# Altium integrated library TI Power Management Supervisor and Reset IC.IntLib: 819 symbols (part 20 of 30)
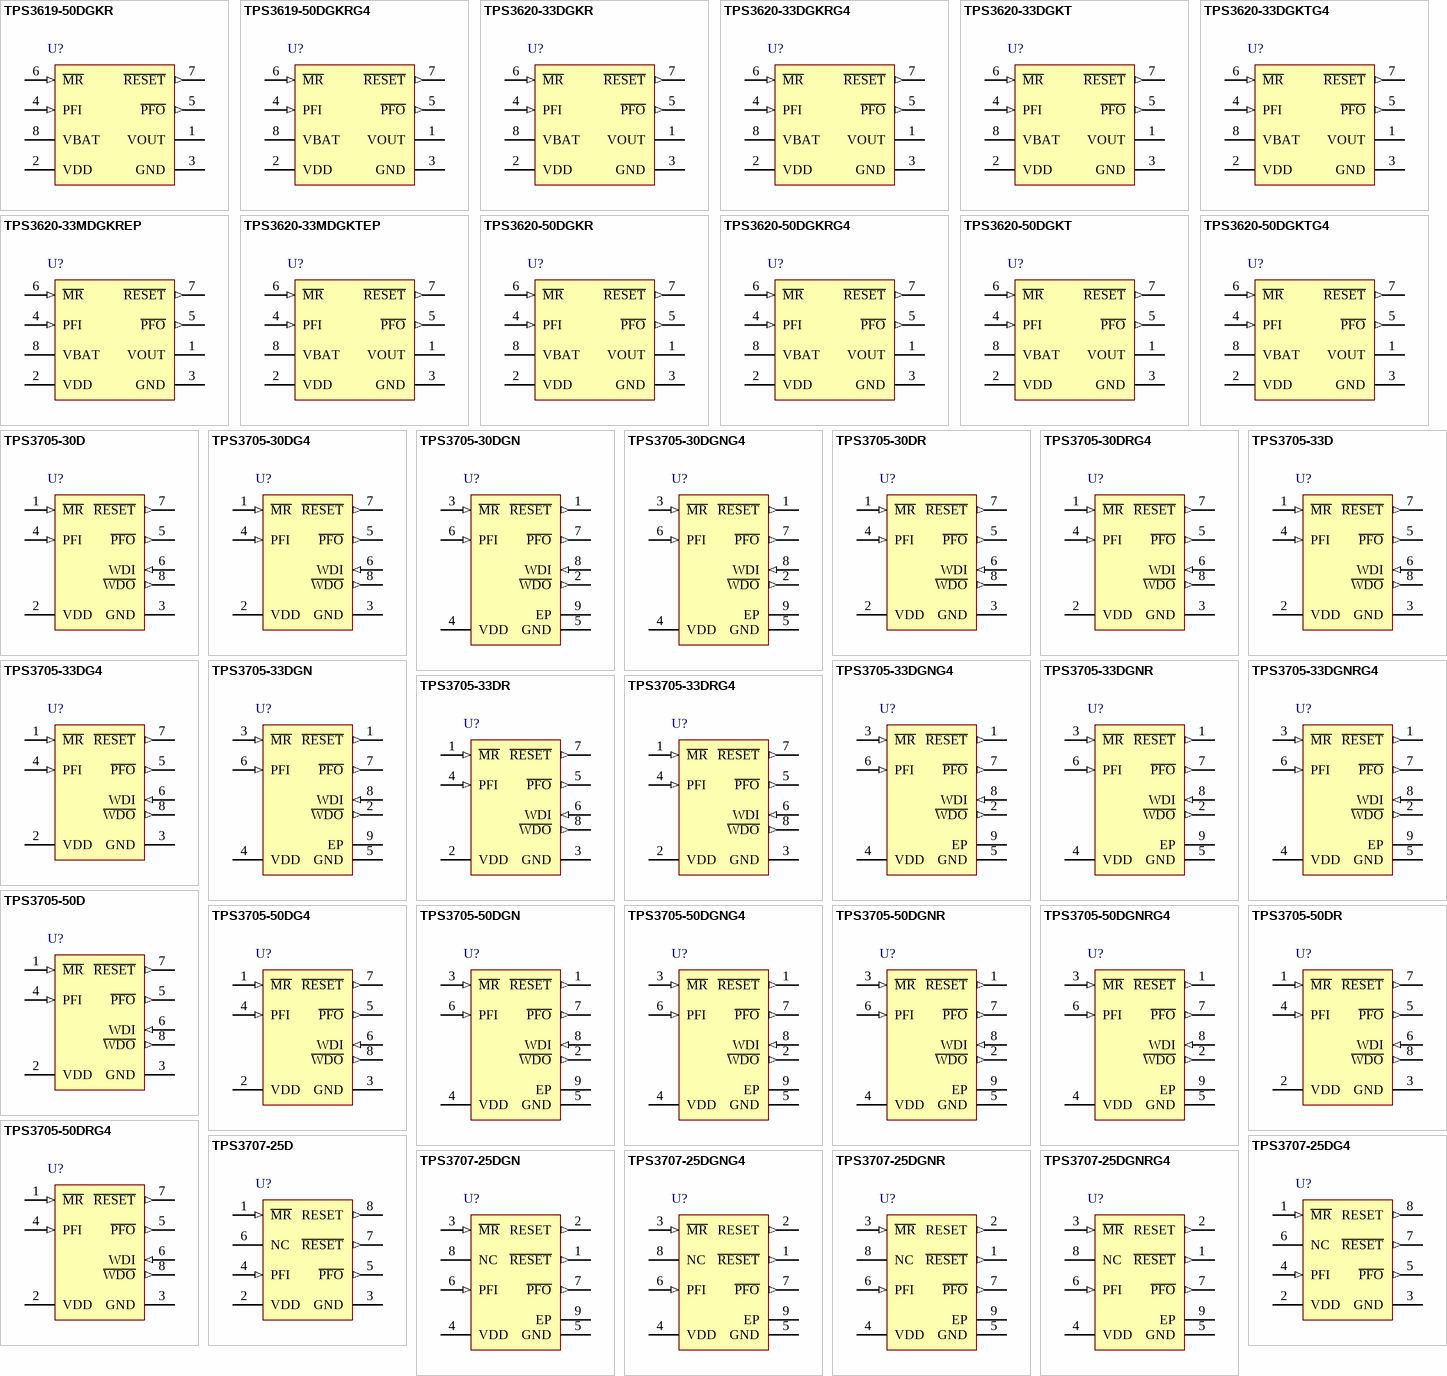
[diagram p40: symbols TPS3619-50DGKR to TPS3707-25DGNRG4]

## TPS3705-50DGNRG4
designator U?
Processor Supervisory Circuit with Power-Fail, 2 Supply Monitored, -40 to 85 degC, 8-pin MSOP-PowerPAD (DGN), Green (RoHS & no Sb/Br); Manufacturer: Texas Instruments; PartNumber: TPS3705-50DGNRG4; # of supplies monitored: 2; Iq(Typ)(uA): 30; Output Driver Type / Reset Output: Active-low, Push-pull; Rating: Catalog; SubFamily: Supervisor and Reset IC; Threshold Voltage 1 (typ)(Typ)(V): 4.55; Threshold Voltage 2 (typ)(Typ)(V): Adjustable; Time Delay(ms): 200; VCC(Max)(V): 5; Watchdog Timer WDI(sec): 1.6; DatasheetVersion: SLVS184C; PackageVersion: revF, May-2011; PackageReference: DGN8-1760X1425TP; PackageDescription: 8-Pin PowerPAD Plastic Small Outline Package 3 x 3 mm Body ,0.65 mm Pitch, Exposed Pad; Supplier 1: Digi-Key; Supplier Part Number 1: TPS3705-50DGNRG4-ND; Supplier 2: Newark; Supplier Part Number 2: 54K1643; Supplier 3: Mouser; Supplier Part Number 3: 595-TPS3705-50DGNRG4; Reset Threshold Accuracy(%): 2; VCC(Min)(V): 2; Mounting Technology: Surface Mount; Code_JEDEC: MO-187-AA-T; ComponentLink1Description: Datasheet; ComponentLink1URL: http://www.ti.com/general/docs/lit/getliterature.tsp?genericPartNumber=TPS3705-50&fileType=pdf
footprint DGN8-1760X1425TP_N (TSOP, 8-Leads, Body 3x3mm, Pitch 0.65mm, Thermal Pad 1.89x1.57mm, IPC Medium Density)
footprint DGN8-1760X1425TP_L (TSOP, 8-Leads, Body 3x3mm, Pitch 0.65mm, Thermal Pad 1.89x1.57mm, IPC High Density)
footprint DGN8-1760X1425TP_M (TSOP, 8-Leads, Body 3x3mm, Pitch 0.65mm, Thermal Pad 1.89x1.57mm, IPC Low Density)
pins: 1 ~{RESET} (out) "Active-low reset output", 2 ~{WDO} (out) "Watchdog timer output", 3 ~{MR} (in) "Manual reset", 4 VDD (power) "Supply voltage", 5 GND (power) "Ground", 6 PFI (in) "Power-fail comparator input", 7 ~{PFO} (out) "Power-fail comparator output", 8 WDI (in) "Watchdog timer input", 9 EP "Thermal Pad"

## TPS3705-50DR
designator U?
Processor Supervisory Circuit with Power-Fail, 2 Supply Monitored, -40 to 85 degC, 8-pin SOIC (D), Green (RoHS & no Sb/Br); Manufacturer: Texas Instruments; PartNumber: TPS3705-50DR; # of supplies monitored: 2; Iq(Typ)(uA): 30; Output Driver Type / Reset Output: Active-low, Push-pull; Rating: Catalog; SubFamily: Supervisor and Reset IC; Threshold Voltage 1 (typ)(Typ)(V): 4.55; Threshold Voltage 2 (typ)(Typ)(V): Adjustable; Time Delay(ms): 200; VCC(Max)(V): 5; Watchdog Timer WDI(sec): 1.6; DatasheetVersion: SLVS184C; PackageVersion: revM, Jun-2011; PackageReference: D8; PackageDescription: 8-Pin Plastic Small Outline Integrated Circuit, 4.9 x 3.9 mm, Pitch 1.27 mm Pitch; Supplier 1: Digi-Key; Supplier Part Number 1: 296-31983-2-ND; Supplier 2: Digi-Key; Supplier Part Number 2: 296-31983-1-ND; Supplier 3: Digi-Key; Supplier Part Number 3: 296-31983-6-ND; Supplier 4: Newark; Supplier Part Number 4: 77C0370; Supplier 5: Mouser; Supplier Part Number 5: 595-TPS3705-50DR; Reset Threshold Accuracy(%): 2; VCC(Min)(V): 2; Mounting Technology: Surface Mount; Code_JEDEC: MS-012AA; ComponentLink1Description: Datasheet; ComponentLink1URL: http://www.ti.com/general/docs/lit/getliterature.tsp?genericPartNumber=TPS3705-50&fileType=pdf
footprint D8_N (SOIC, 8-Leads, Body 4.9x3.9mm, Pitch 1.27mm, IPC Medium Density)
footprint D8_L (SOIC, 8-Leads, Body 4.9x3.9mm, Pitch 1.27mm, IPC High Density)
footprint D8_M (SOIC, 8-Leads, Body 4.9x3.9mm, Pitch 1.27mm, IPC Low Density)
pins: 1 ~{MR} (in) "Manual reset", 2 VDD (power) "Supply voltage", 3 GND (power) "Ground", 4 PFI (in) "Power-fail comparator input", 5 ~{PFO} (out) "Power-fail comparator output", 6 WDI (in) "Watchdog timer input", 7 ~{RESET} (out) "Active-low reset output", 8 ~{WDO} (out) "Watchdog timer output"

## TPS3705-50DRG4
designator U?
Processor Supervisory Circuit with Power-Fail, 2 Supply Monitored, -40 to 85 degC, 8-pin SOIC (D), Green (RoHS & no Sb/Br); Manufacturer: Texas Instruments; PartNumber: TPS3705-50DRG4; # of supplies monitored: 2; Iq(Typ)(uA): 30; Output Driver Type / Reset Output: Active-low, Push-pull; Rating: Catalog; SubFamily: Supervisor and Reset IC; Threshold Voltage 1 (typ)(Typ)(V): 4.55; Threshold Voltage 2 (typ)(Typ)(V): Adjustable; Time Delay(ms): 200; VCC(Max)(V): 5; Watchdog Timer WDI(sec): 1.6; DatasheetVersion: SLVS184C; PackageVersion: revM, Jun-2011; PackageReference: D8; PackageDescription: 8-Pin Plastic Small Outline Integrated Circuit, 4.9 x 3.9 mm, Pitch 1.27 mm Pitch; Supplier 1: Digi-Key; Supplier Part Number 1: TPS3705-50DRG4-ND; Supplier 2: Newark; Supplier Part Number 2: 54K1644; Supplier 3: Mouser; Supplier Part Number 3: 595-TPS3705-50DRG4; Reset Threshold Accuracy(%): 2; VCC(Min)(V): 2; Mounting Technology: Surface Mount; Code_JEDEC: MS-012AA; ComponentLink1Description: Datasheet; ComponentLink1URL: http://www.ti.com/general/docs/lit/getliterature.tsp?genericPartNumber=TPS3705-50&fileType=pdf
footprint D8_N (SOIC, 8-Leads, Body 4.9x3.9mm, Pitch 1.27mm, IPC Medium Density)
footprint D8_L (SOIC, 8-Leads, Body 4.9x3.9mm, Pitch 1.27mm, IPC High Density)
footprint D8_M (SOIC, 8-Leads, Body 4.9x3.9mm, Pitch 1.27mm, IPC Low Density)
pins: 1 ~{MR} (in) "Manual reset", 2 VDD (power) "Supply voltage", 3 GND (power) "Ground", 4 PFI (in) "Power-fail comparator input", 5 ~{PFO} (out) "Power-fail comparator output", 6 WDI (in) "Watchdog timer input", 7 ~{RESET} (out) "Active-low reset output", 8 ~{WDO} (out) "Watchdog timer output"

## TPS3707-25D
designator U?
Processor Supervisory Circuit with Power-Fail, 2 Supply Monitored, -40 to 85 degC, 8-pin SOIC (D), Green (RoHS & no Sb/Br); Manufacturer: Texas Instruments; PartNumber: TPS3707-25D; # of supplies monitored: 2; Iq(Typ)(uA): 20; Output Driver Type / Reset Output: Active-low, Push-pull; Rating: Catalog; Reset Threshold Accuracy(%): 2.2; SubFamily: Supervisor and Reset IC; Threshold Voltage 1 (typ)(Typ)(V): 2.25; Threshold Voltage 2 (typ)(Typ)(V): Adjustable; Time Delay(ms): 200; VCC(Max)(V): 2.5; DatasheetVersion: SLVS184C; PackageVersion: revM, Jun-2011; PackageReference: D8; PackageDescription: 8-Pin Plastic Small Outline Integrated Circuit, 4.9 x 3.9 mm, Pitch 1.27 mm Pitch; Supplier 1: Digi-Key; Supplier Part Number 1: 296-2625-5-ND; Supplier 2: Newark; Supplier Part Number 2: 19C9042; Supplier 3: Mouser; Supplier Part Number 3: 595-TPS3707-25D; VCC(Min)(V): 2; Mounting Technology: Surface Mount; Code_JEDEC: MS-012AA; ComponentLink1Description: Datasheet; ComponentLink1URL: http://www.ti.com/general/docs/lit/getliterature.tsp?genericPartNumber=TPS3707-25&fileType=pdf
footprint D8_N (SOIC, 8-Leads, Body 4.9x3.9mm, Pitch 1.27mm, IPC Medium Density)
footprint D8_L (SOIC, 8-Leads, Body 4.9x3.9mm, Pitch 1.27mm, IPC High Density)
footprint D8_M (SOIC, 8-Leads, Body 4.9x3.9mm, Pitch 1.27mm, IPC Low Density)
pins: 1 ~{MR} (in) "Manual reset", 2 VDD (power) "Supply voltage", 3 GND (power) "Ground", 4 PFI (in) "Power-fail comparator input", 5 ~{PFO} (out) "Power-fail comparator output", 6 NC "No internal connection", 7 ~{RESET} (out) "Active-low reset output", 8 RESET (out) "Active-high reset output"

## TPS3707-25DG4
designator U?
Processor Supervisory Circuit with Power-Fail, 2 Supply Monitored, -40 to 85 degC, 8-pin SOIC (D), Green (RoHS & no Sb/Br); Manufacturer: Texas Instruments; PartNumber: TPS3707-25DG4; # of supplies monitored: 2; Iq(Typ)(uA): 20; Output Driver Type / Reset Output: Active-low, Push-pull; Rating: Catalog; Reset Threshold Accuracy(%): 2.2; SubFamily: Supervisor and Reset IC; Threshold Voltage 1 (typ)(Typ)(V): 2.25; Threshold Voltage 2 (typ)(Typ)(V): Adjustable; Time Delay(ms): 200; VCC(Max)(V): 2.5; DatasheetVersion: SLVS184C; PackageVersion: revM, Jun-2011; PackageReference: D8; PackageDescription: 8-Pin Plastic Small Outline Integrated Circuit, 4.9 x 3.9 mm, Pitch 1.27 mm Pitch; Supplier 1: Digi-Key; Supplier Part Number 1: TPS3707-25DG4-ND; Supplier 2: Newark; Supplier Part Number 2: 41M5865; Supplier 3: Mouser; Supplier Part Number 3: 595-TPS3707-25DG4; VCC(Min)(V): 2; Mounting Technology: Surface Mount; Code_JEDEC: MS-012AA; ComponentLink1Description: Datasheet; ComponentLink1URL: http://www.ti.com/general/docs/lit/getliterature.tsp?genericPartNumber=TPS3707-25&fileType=pdf
footprint D8_N (SOIC, 8-Leads, Body 4.9x3.9mm, Pitch 1.27mm, IPC Medium Density)
footprint D8_L (SOIC, 8-Leads, Body 4.9x3.9mm, Pitch 1.27mm, IPC High Density)
footprint D8_M (SOIC, 8-Leads, Body 4.9x3.9mm, Pitch 1.27mm, IPC Low Density)
pins: 1 ~{MR} (in) "Manual reset", 2 VDD (power) "Supply voltage", 3 GND (power) "Ground", 4 PFI (in) "Power-fail comparator input", 5 ~{PFO} (out) "Power-fail comparator output", 6 NC "No internal connection", 7 ~{RESET} (out) "Active-low reset output", 8 RESET (out) "Active-high reset output"

## TPS3707-25DGN
designator U?
Processor Supervisory Circuit with Power-Fail, 2 Supply Monitored, -40 to 85 degC, 8-pin MSOP-PowerPAD (DGN), Green (RoHS & no Sb/Br); Manufacturer: Texas Instruments; PartNumber: TPS3707-25DGN; # of supplies monitored: 2; Iq(Typ)(uA): 20; Output Driver Type / Reset Output: Active-low, Push-pull; Rating: Catalog; Reset Threshold Accuracy(%): 2.2; SubFamily: Supervisor and Reset IC; Threshold Voltage 1 (typ)(Typ)(V): 2.25; Threshold Voltage 2 (typ)(Typ)(V): Adjustable; Time Delay(ms): 200; VCC(Max)(V): 2.5; DatasheetVersion: SLVS184C; PackageVersion: revF, May-2011; PackageReference: DGN8-1760X1425TP; PackageDescription: 8-Pin PowerPAD Plastic Small Outline Package 3 x 3 mm Body ,0.65 mm Pitch, Exposed Pad; Supplier 1: Digi-Key; Supplier Part Number 1: 296-34605-5-ND; Supplier 2: Newark; Supplier Part Number 2: 77C0371; Supplier 3: Mouser; Supplier Part Number 3: 595-TPS3707-25DGN; VCC(Min)(V): 2; Mounting Technology: Surface Mount; Code_JEDEC: MO-187-AA-T; ComponentLink1Description: Datasheet; ComponentLink1URL: http://www.ti.com/general/docs/lit/getliterature.tsp?genericPartNumber=TPS3707-25&fileType=pdf
footprint DGN8-1760X1425TP_N (TSOP, 8-Leads, Body 3x3mm, Pitch 0.65mm, Thermal Pad 1.89x1.57mm, IPC Medium Density)
footprint DGN8-1760X1425TP_L (TSOP, 8-Leads, Body 3x3mm, Pitch 0.65mm, Thermal Pad 1.89x1.57mm, IPC High Density)
footprint DGN8-1760X1425TP_M (TSOP, 8-Leads, Body 3x3mm, Pitch 0.65mm, Thermal Pad 1.89x1.57mm, IPC Low Density)
pins: 1 ~{RESET} (out) "Active-low reset output", 2 RESET (out) "Active-high reset output", 3 ~{MR} (in) "Manual reset", 4 VDD (power) "Supply voltage", 5 GND (power) "Ground", 6 PFI (in) "Power-fail comparator input", 7 ~{PFO} (out) "Power-fail comparator output", 8 NC "No internal connection", 9 EP "Exposed thermal pad"

## TPS3707-25DGNG4
designator U?
Processor Supervisory Circuit with Power-Fail, 2 Supply Monitored, -40 to 85 degC, 8-pin MSOP-PowerPAD (DGN), Green (RoHS & no Sb/Br); Manufacturer: Texas Instruments; PartNumber: TPS3707-25DGNG4; # of supplies monitored: 2; Iq(Typ)(uA): 20; Output Driver Type / Reset Output: Active-low, Push-pull; Rating: Catalog; Reset Threshold Accuracy(%): 2.2; SubFamily: Supervisor and Reset IC; Threshold Voltage 1 (typ)(Typ)(V): 2.25; Threshold Voltage 2 (typ)(Typ)(V): Adjustable; Time Delay(ms): 200; VCC(Max)(V): 2.5; DatasheetVersion: SLVS184C; PackageVersion: revF, May-2011; PackageReference: DGN8-1760X1425TP; PackageDescription: 8-Pin PowerPAD Plastic Small Outline Package 3 x 3 mm Body ,0.65 mm Pitch, Exposed Pad; Supplier 1: Digi-Key; Supplier Part Number 1: TPS3707-25DGNG4-ND; Supplier 2: Newark; Supplier Part Number 2: 54K1645; Supplier 3: Mouser; Supplier Part Number 3: 595-TPS3707-25DGNG4; VCC(Min)(V): 2; Mounting Technology: Surface Mount; Code_JEDEC: MO-187-AA-T; ComponentLink1Description: Datasheet; ComponentLink1URL: http://www.ti.com/general/docs/lit/getliterature.tsp?genericPartNumber=TPS3707-25&fileType=pdf
footprint DGN8-1760X1425TP_N (TSOP, 8-Leads, Body 3x3mm, Pitch 0.65mm, Thermal Pad 1.89x1.57mm, IPC Medium Density)
footprint DGN8-1760X1425TP_L (TSOP, 8-Leads, Body 3x3mm, Pitch 0.65mm, Thermal Pad 1.89x1.57mm, IPC High Density)
footprint DGN8-1760X1425TP_M (TSOP, 8-Leads, Body 3x3mm, Pitch 0.65mm, Thermal Pad 1.89x1.57mm, IPC Low Density)
pins: 1 ~{RESET} (out) "Active-low reset output", 2 RESET (out) "Active-high reset output", 3 ~{MR} (in) "Manual reset", 4 VDD (power) "Supply voltage", 5 GND (power) "Ground", 6 PFI (in) "Power-fail comparator input", 7 ~{PFO} (out) "Power-fail comparator output", 8 NC "No internal connection", 9 EP "Exposed thermal pad"

## TPS3707-25DGNR
designator U?
Processor Supervisory Circuit with Power-Fail, 2 Supply Monitored, -40 to 85 degC, 8-pin MSOP-PowerPAD (DGN), Green (RoHS & no Sb/Br); Manufacturer: Texas Instruments; PartNumber: TPS3707-25DGNR; # of supplies monitored: 2; Iq(Typ)(uA): 20; Output Driver Type / Reset Output: Active-low, Push-pull; Rating: Catalog; Reset Threshold Accuracy(%): 2.2; SubFamily: Supervisor and Reset IC; Threshold Voltage 1 (typ)(Typ)(V): 2.25; Threshold Voltage 2 (typ)(Typ)(V): Adjustable; Time Delay(ms): 200; VCC(Max)(V): 2.5; DatasheetVersion: SLVS184C; PackageVersion: revF, May-2011; PackageReference: DGN8-1760X1425TP; PackageDescription: 8-Pin PowerPAD Plastic Small Outline Package 3 x 3 mm Body ,0.65 mm Pitch, Exposed Pad; Supplier 1: Digi-Key; Supplier Part Number 1: 296-3321-2-ND; Supplier 2: Digi-Key; Supplier Part Number 2: 296-3321-1-ND; Supplier 3: Digi-Key; Supplier Part Number 3: 296-3321-6-ND; Supplier 4: Newark; Supplier Part Number 4: 77C0372; Supplier 5: Mouser; Supplier Part Number 5: 595-TPS3707-25DGNR; VCC(Min)(V): 2; Mounting Technology: Surface Mount; Code_JEDEC: MO-187-AA-T; ComponentLink1Description: Datasheet; ComponentLink1URL: http://www.ti.com/general/docs/lit/getliterature.tsp?genericPartNumber=TPS3707-25&fileType=pdf
footprint DGN8-1760X1425TP_N (TSOP, 8-Leads, Body 3x3mm, Pitch 0.65mm, Thermal Pad 1.89x1.57mm, IPC Medium Density)
footprint DGN8-1760X1425TP_L (TSOP, 8-Leads, Body 3x3mm, Pitch 0.65mm, Thermal Pad 1.89x1.57mm, IPC High Density)
footprint DGN8-1760X1425TP_M (TSOP, 8-Leads, Body 3x3mm, Pitch 0.65mm, Thermal Pad 1.89x1.57mm, IPC Low Density)
pins: 1 ~{RESET} (out) "Active-low reset output", 2 RESET (out) "Active-high reset output", 3 ~{MR} (in) "Manual reset", 4 VDD (power) "Supply voltage", 5 GND (power) "Ground", 6 PFI (in) "Power-fail comparator input", 7 ~{PFO} (out) "Power-fail comparator output", 8 NC "No internal connection", 9 EP "Exposed thermal pad"

## TPS3707-25DGNRG4
designator U?
Processor Supervisory Circuit with Power-Fail, 2 Supply Monitored, -40 to 85 degC, 8-pin MSOP-PowerPAD (DGN), Green (RoHS & no Sb/Br); Manufacturer: Texas Instruments; PartNumber: TPS3707-25DGNRG4; # of supplies monitored: 2; Iq(Typ)(uA): 20; Output Driver Type / Reset Output: Active-low, Push-pull; Rating: Catalog; Reset Threshold Accuracy(%): 2.2; SubFamily: Supervisor and Reset IC; Threshold Voltage 1 (typ)(Typ)(V): 2.25; Threshold Voltage 2 (typ)(Typ)(V): Adjustable; Time Delay(ms): 200; VCC(Max)(V): 2.5; DatasheetVersion: SLVS184C; PackageVersion: revF, May-2011; PackageReference: DGN8-1760X1425TP; PackageDescription: 8-Pin PowerPAD Plastic Small Outline Package 3 x 3 mm Body ,0.65 mm Pitch, Exposed Pad; Supplier 1: Digi-Key; Supplier Part Number 1: TPS3707-25DGNRG4-ND; Supplier 2: Newark; Supplier Part Number 2: 54K1646; Supplier 3: Mouser; Supplier Part Number 3: 595-TPS3707-25DGNRG4; VCC(Min)(V): 2; Mounting Technology: Surface Mount; Code_JEDEC: MO-187-AA-T; ComponentLink1Description: Datasheet; ComponentLink1URL: http://www.ti.com/general/docs/lit/getliterature.tsp?genericPartNumber=TPS3707-25&fileType=pdf
footprint DGN8-1760X1425TP_N (TSOP, 8-Leads, Body 3x3mm, Pitch 0.65mm, Thermal Pad 1.89x1.57mm, IPC Medium Density)
footprint DGN8-1760X1425TP_L (TSOP, 8-Leads, Body 3x3mm, Pitch 0.65mm, Thermal Pad 1.89x1.57mm, IPC High Density)
footprint DGN8-1760X1425TP_M (TSOP, 8-Leads, Body 3x3mm, Pitch 0.65mm, Thermal Pad 1.89x1.57mm, IPC Low Density)
pins: 1 ~{RESET} (out) "Active-low reset output", 2 RESET (out) "Active-high reset output", 3 ~{MR} (in) "Manual reset", 4 VDD (power) "Supply voltage", 5 GND (power) "Ground", 6 PFI (in) "Power-fail comparator input", 7 ~{PFO} (out) "Power-fail comparator output", 8 NC "No internal connection", 9 EP "Exposed thermal pad"

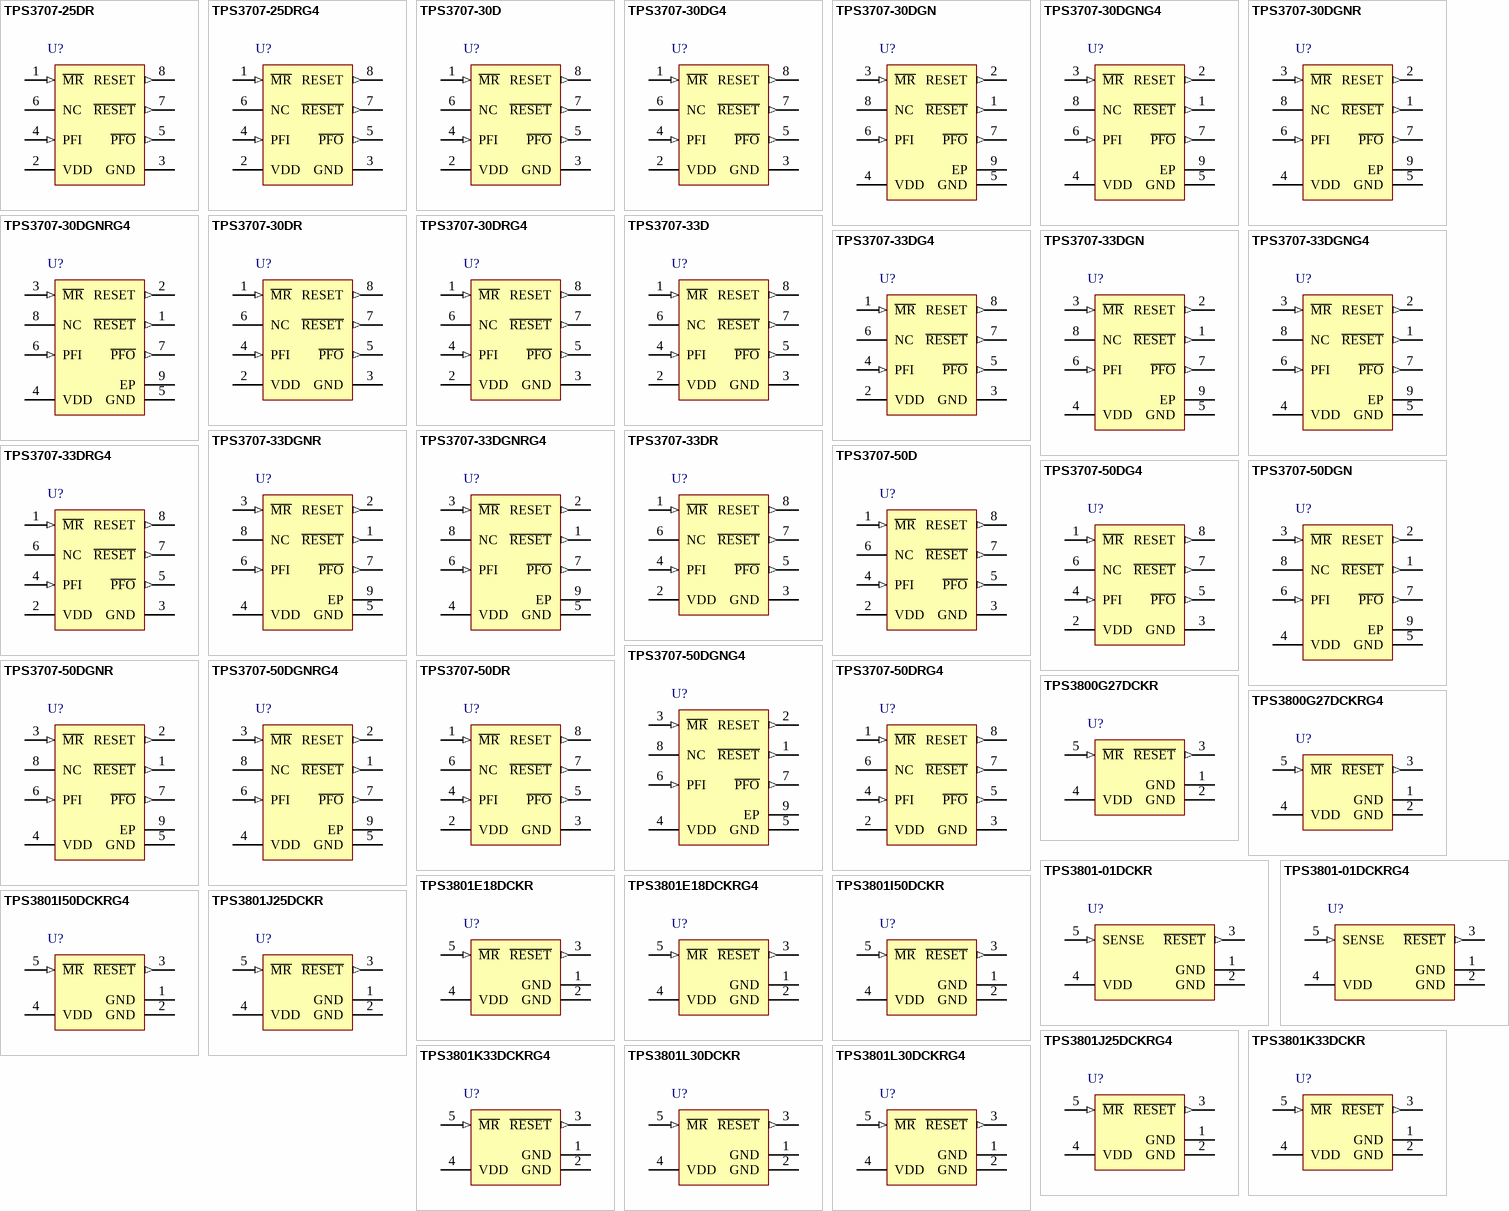
[diagram p15: symbols TPS3707-25DR to TPS3801L30DCKRG4]

## TPS3707-25DR
designator U?
Processor Supervisory Circuit with Power-Fail, 2 Supply Monitored, -40 to 85 degC, 8-pin SOIC (D), Green (RoHS & no Sb/Br); Manufacturer: Texas Instruments; PartNumber: TPS3707-25DR; # of supplies monitored: 2; Iq(Typ)(uA): 20; Output Driver Type / Reset Output: Active-low, Push-pull; Rating: Catalog; Reset Threshold Accuracy(%): 2.2; SubFamily: Supervisor and Reset IC; Threshold Voltage 1 (typ)(Typ)(V): 2.25; Threshold Voltage 2 (typ)(Typ)(V): Adjustable; Time Delay(ms): 200; VCC(Max)(V): 2.5; DatasheetVersion: SLVS184C; PackageVersion: revM, Jun-2011; PackageReference: D8; PackageDescription: 8-Pin Plastic Small Outline Integrated Circuit, 4.9 x 3.9 mm, Pitch 1.27 mm Pitch; Supplier 1: Digi-Key; Supplier Part Number 1: TPS3707-25DR-ND; Supplier 2: Newark; Supplier Part Number 2: 77C0373; Supplier 3: Mouser; Supplier Part Number 3: 595-TPS3707-25DR; VCC(Min)(V): 2; Mounting Technology: Surface Mount; Code_JEDEC: MS-012AA; ComponentLink1Description: Datasheet; ComponentLink1URL: http://www.ti.com/general/docs/lit/getliterature.tsp?genericPartNumber=TPS3707-25&fileType=pdf
footprint D8_N (SOIC, 8-Leads, Body 4.9x3.9mm, Pitch 1.27mm, IPC Medium Density)
footprint D8_L (SOIC, 8-Leads, Body 4.9x3.9mm, Pitch 1.27mm, IPC High Density)
footprint D8_M (SOIC, 8-Leads, Body 4.9x3.9mm, Pitch 1.27mm, IPC Low Density)
pins: 1 ~{MR} (in) "Manual reset", 2 VDD (power) "Supply voltage", 3 GND (power) "Ground", 4 PFI (in) "Power-fail comparator input", 5 ~{PFO} (out) "Power-fail comparator output", 6 NC "No internal connection", 7 ~{RESET} (out) "Active-low reset output", 8 RESET (out) "Active-high reset output"

## TPS3707-25DRG4
designator U?
Processor Supervisory Circuit with Power-Fail, 2 Supply Monitored, -40 to 85 degC, 8-pin SOIC (D), Green (RoHS & no Sb/Br); Manufacturer: Texas Instruments; PartNumber: TPS3707-25DRG4; # of supplies monitored: 2; Iq(Typ)(uA): 20; Output Driver Type / Reset Output: Active-low, Push-pull; Rating: Catalog; Reset Threshold Accuracy(%): 2.2; SubFamily: Supervisor and Reset IC; Threshold Voltage 1 (typ)(Typ)(V): 2.25; Threshold Voltage 2 (typ)(Typ)(V): Adjustable; Time Delay(ms): 200; VCC(Max)(V): 2.5; DatasheetVersion: SLVS184C; PackageVersion: revM, Jun-2011; PackageReference: D8; PackageDescription: 8-Pin Plastic Small Outline Integrated Circuit, 4.9 x 3.9 mm, Pitch 1.27 mm Pitch; Supplier 1: Digi-Key; Supplier Part Number 1: TPS3707-25DRG4-ND; Supplier 2: Newark; Supplier Part Number 2: 33K7605; Supplier 3: Mouser; Supplier Part Number 3: 595-TPS3707-25DRG4; VCC(Min)(V): 2; Mounting Technology: Surface Mount; Code_JEDEC: MS-012AA; ComponentLink1Description: Datasheet; ComponentLink1URL: http://www.ti.com/general/docs/lit/getliterature.tsp?genericPartNumber=TPS3707-25&fileType=pdf
footprint D8_N (SOIC, 8-Leads, Body 4.9x3.9mm, Pitch 1.27mm, IPC Medium Density)
footprint D8_L (SOIC, 8-Leads, Body 4.9x3.9mm, Pitch 1.27mm, IPC High Density)
footprint D8_M (SOIC, 8-Leads, Body 4.9x3.9mm, Pitch 1.27mm, IPC Low Density)
pins: 1 ~{MR} (in) "Manual reset", 2 VDD (power) "Supply voltage", 3 GND (power) "Ground", 4 PFI (in) "Power-fail comparator input", 5 ~{PFO} (out) "Power-fail comparator output", 6 NC "No internal connection", 7 ~{RESET} (out) "Active-low reset output", 8 RESET (out) "Active-high reset output"

## TPS3707-30D
designator U?
Processor Supervisory Circuit with Power-Fail, 2 Supply Monitored, -40 to 85 degC, 8-pin SOIC (D), Green (RoHS & no Sb/Br); Manufacturer: Texas Instruments; PartNumber: TPS3707-30D; # of supplies monitored: 2; Iq(Typ)(uA): 20; Output Driver Type / Reset Output: Active-low, Push-pull; Rating: Catalog; Reset Threshold Accuracy(%): 2.1; SubFamily: Supervisor and Reset IC; Threshold Voltage 1 (typ)(Typ)(V): 2.63; Threshold Voltage 2 (typ)(Typ)(V): Adjustable; Time Delay(ms): 200; VCC(Max)(V): 3; DatasheetVersion: SLVS184C; PackageVersion: revM, Jun-2011; PackageReference: D8; PackageDescription: 8-Pin Plastic Small Outline Integrated Circuit, 4.9 x 3.9 mm, Pitch 1.27 mm Pitch; Supplier 1: Digi-Key; Supplier Part Number 1: 296-2626-5-ND; Supplier 2: Newark; Supplier Part Number 2: 35K1320; Supplier 3: Mouser; Supplier Part Number 3: 595-TPS3707-30D; VCC(Min)(V): 2; Mounting Technology: Surface Mount; Code_JEDEC: MS-012AA; ComponentLink1Description: Datasheet; ComponentLink1URL: http://www.ti.com/general/docs/lit/getliterature.tsp?genericPartNumber=TPS3707-30&fileType=pdf
footprint D8_N (SOIC, 8-Leads, Body 4.9x3.9mm, Pitch 1.27mm, IPC Medium Density)
footprint D8_L (SOIC, 8-Leads, Body 4.9x3.9mm, Pitch 1.27mm, IPC High Density)
footprint D8_M (SOIC, 8-Leads, Body 4.9x3.9mm, Pitch 1.27mm, IPC Low Density)
pins: 1 ~{MR} (in) "Manual reset", 2 VDD (power) "Supply voltage", 3 GND (power) "Ground", 4 PFI (in) "Power-fail comparator input", 5 ~{PFO} (out) "Power-fail comparator output", 6 NC "No internal connection", 7 ~{RESET} (out) "Active-low reset output", 8 RESET (out) "Active-high reset output"

## TPS3707-30DG4
designator U?
Processor Supervisory Circuit with Power-Fail, 2 Supply Monitored, -40 to 85 degC, 8-pin SOIC (D), Green (RoHS & no Sb/Br); Manufacturer: Texas Instruments; PartNumber: TPS3707-30DG4; # of supplies monitored: 2; Iq(Typ)(uA): 20; Output Driver Type / Reset Output: Active-low, Push-pull; Rating: Catalog; Reset Threshold Accuracy(%): 2.1; SubFamily: Supervisor and Reset IC; Threshold Voltage 1 (typ)(Typ)(V): 2.63; Threshold Voltage 2 (typ)(Typ)(V): Adjustable; Time Delay(ms): 200; VCC(Max)(V): 3; DatasheetVersion: SLVS184C; PackageVersion: revM, Jun-2011; PackageReference: D8; PackageDescription: 8-Pin Plastic Small Outline Integrated Circuit, 4.9 x 3.9 mm, Pitch 1.27 mm Pitch; Supplier 1: Digi-Key; Supplier Part Number 1: TPS3707-30DG4-ND; Supplier 2: Newark; Supplier Part Number 2: 18M3218; Supplier 3: Mouser; Supplier Part Number 3: 595-TPS3707-30DG4; VCC(Min)(V): 2; Mounting Technology: Surface Mount; Code_JEDEC: MS-012AA; ComponentLink1Description: Datasheet; ComponentLink1URL: http://www.ti.com/general/docs/lit/getliterature.tsp?genericPartNumber=TPS3707-30&fileType=pdf
footprint D8_N (SOIC, 8-Leads, Body 4.9x3.9mm, Pitch 1.27mm, IPC Medium Density)
footprint D8_L (SOIC, 8-Leads, Body 4.9x3.9mm, Pitch 1.27mm, IPC High Density)
footprint D8_M (SOIC, 8-Leads, Body 4.9x3.9mm, Pitch 1.27mm, IPC Low Density)
pins: 1 ~{MR} (in) "Manual reset", 2 VDD (power) "Supply voltage", 3 GND (power) "Ground", 4 PFI (in) "Power-fail comparator input", 5 ~{PFO} (out) "Power-fail comparator output", 6 NC "No internal connection", 7 ~{RESET} (out) "Active-low reset output", 8 RESET (out) "Active-high reset output"

## TPS3707-30DGN
designator U?
Processor Supervisory Circuit with Power-Fail, 2 Supply Monitored, -40 to 85 degC, 8-pin MSOP-PowerPAD (DGN), Green (RoHS & no Sb/Br); Manufacturer: Texas Instruments; PartNumber: TPS3707-30DGN; # of supplies monitored: 2; Iq(Typ)(uA): 20; Output Driver Type / Reset Output: Active-low, Push-pull; Rating: Catalog; Reset Threshold Accuracy(%): 2.1; SubFamily: Supervisor and Reset IC; Threshold Voltage 1 (typ)(Typ)(V): 2.63; Threshold Voltage 2 (typ)(Typ)(V): Adjustable; Time Delay(ms): 200; VCC(Max)(V): 3; DatasheetVersion: SLVS184C; PackageVersion: revF, May-2011; PackageReference: DGN8-1760X1425TP; PackageDescription: 8-Pin PowerPAD Plastic Small Outline Package 3 x 3 mm Body ,0.65 mm Pitch, Exposed Pad; Supplier 1: Digi-Key; Supplier Part Number 1: 296-3322-5-ND; Supplier 2: Newark; Supplier Part Number 2: 77C0374; Supplier 3: Mouser; Supplier Part Number 3: 595-TPS3707-30DGN; VCC(Min)(V): 2; Mounting Technology: Surface Mount; Code_JEDEC: MO-187-AA-T; ComponentLink1Description: Datasheet; ComponentLink1URL: http://www.ti.com/general/docs/lit/getliterature.tsp?genericPartNumber=TPS3707-30&fileType=pdf
footprint DGN8-1760X1425TP_N (TSOP, 8-Leads, Body 3x3mm, Pitch 0.65mm, Thermal Pad 1.89x1.57mm, IPC Medium Density)
footprint DGN8-1760X1425TP_L (TSOP, 8-Leads, Body 3x3mm, Pitch 0.65mm, Thermal Pad 1.89x1.57mm, IPC High Density)
footprint DGN8-1760X1425TP_M (TSOP, 8-Leads, Body 3x3mm, Pitch 0.65mm, Thermal Pad 1.89x1.57mm, IPC Low Density)
pins: 1 ~{RESET} (out) "Active-low reset output", 2 RESET (out) "Active-high reset output", 3 ~{MR} (in) "Manual reset", 4 VDD (power) "Supply voltage", 5 GND (power) "Ground", 6 PFI (in) "Power-fail comparator input", 7 ~{PFO} (out) "Power-fail comparator output", 8 NC "No internal connection", 9 EP "Exposed thermal pad"

## TPS3707-30DGNG4
designator U?
Processor Supervisory Circuit with Power-Fail, 2 Supply Monitored, -40 to 85 degC, 8-pin MSOP-PowerPAD (DGN), Green (RoHS & no Sb/Br); Manufacturer: Texas Instruments; PartNumber: TPS3707-30DGNG4; # of supplies monitored: 2; Iq(Typ)(uA): 20; Output Driver Type / Reset Output: Active-low, Push-pull; Rating: Catalog; Reset Threshold Accuracy(%): 2.1; SubFamily: Supervisor and Reset IC; Threshold Voltage 1 (typ)(Typ)(V): 2.63; Threshold Voltage 2 (typ)(Typ)(V): Adjustable; Time Delay(ms): 200; VCC(Max)(V): 3; DatasheetVersion: SLVS184C; PackageVersion: revF, May-2011; PackageReference: DGN8-1760X1425TP; PackageDescription: 8-Pin PowerPAD Plastic Small Outline Package 3 x 3 mm Body ,0.65 mm Pitch, Exposed Pad; Supplier 1: Digi-Key; Supplier Part Number 1: TPS3707-30DGNG4-ND; Supplier 2: Newark; Supplier Part Number 2: 54K1647; Supplier 3: Mouser; Supplier Part Number 3: 595-TPS3707-30DGNG4; VCC(Min)(V): 2; Mounting Technology: Surface Mount; Code_JEDEC: MO-187-AA-T; ComponentLink1Description: Datasheet; ComponentLink1URL: http://www.ti.com/general/docs/lit/getliterature.tsp?genericPartNumber=TPS3707-30&fileType=pdf
footprint DGN8-1760X1425TP_N (TSOP, 8-Leads, Body 3x3mm, Pitch 0.65mm, Thermal Pad 1.89x1.57mm, IPC Medium Density)
footprint DGN8-1760X1425TP_L (TSOP, 8-Leads, Body 3x3mm, Pitch 0.65mm, Thermal Pad 1.89x1.57mm, IPC High Density)
footprint DGN8-1760X1425TP_M (TSOP, 8-Leads, Body 3x3mm, Pitch 0.65mm, Thermal Pad 1.89x1.57mm, IPC Low Density)
pins: 1 ~{RESET} (out) "Active-low reset output", 2 RESET (out) "Active-high reset output", 3 ~{MR} (in) "Manual reset", 4 VDD (power) "Supply voltage", 5 GND (power) "Ground", 6 PFI (in) "Power-fail comparator input", 7 ~{PFO} (out) "Power-fail comparator output", 8 NC "No internal connection", 9 EP "Exposed thermal pad"

## TPS3707-30DGNR
designator U?
Processor Supervisory Circuit with Power-Fail, 2 Supply Monitored, -40 to 85 degC, 8-pin MSOP-PowerPAD (DGN), Green (RoHS & no Sb/Br); Manufacturer: Texas Instruments; PartNumber: TPS3707-30DGNR; # of supplies monitored: 2; Iq(Typ)(uA): 20; Output Driver Type / Reset Output: Active-low, Push-pull; Rating: Catalog; Reset Threshold Accuracy(%): 2.1; SubFamily: Supervisor and Reset IC; Threshold Voltage 1 (typ)(Typ)(V): 2.63; Threshold Voltage 2 (typ)(Typ)(V): Adjustable; Time Delay(ms): 200; VCC(Max)(V): 3; DatasheetVersion: SLVS184C; PackageVersion: revF, May-2011; PackageReference: DGN8-1760X1425TP; PackageDescription: 8-Pin PowerPAD Plastic Small Outline Package 3 x 3 mm Body ,0.65 mm Pitch, Exposed Pad; Supplier 1: Digi-Key; Supplier Part Number 1: TPS3707-30DGNR-ND; Supplier 2: Newark; Supplier Part Number 2: 65J6892; Supplier 3: Mouser; Supplier Part Number 3: 595-TPS3707-30DGNR; VCC(Min)(V): 2; Mounting Technology: Surface Mount; Code_JEDEC: MO-187-AA-T; ComponentLink1Description: Datasheet; ComponentLink1URL: http://www.ti.com/general/docs/lit/getliterature.tsp?genericPartNumber=TPS3707-30&fileType=pdf
footprint DGN8-1760X1425TP_N (TSOP, 8-Leads, Body 3x3mm, Pitch 0.65mm, Thermal Pad 1.89x1.57mm, IPC Medium Density)
footprint DGN8-1760X1425TP_L (TSOP, 8-Leads, Body 3x3mm, Pitch 0.65mm, Thermal Pad 1.89x1.57mm, IPC High Density)
footprint DGN8-1760X1425TP_M (TSOP, 8-Leads, Body 3x3mm, Pitch 0.65mm, Thermal Pad 1.89x1.57mm, IPC Low Density)
pins: 1 ~{RESET} (out) "Active-low reset output", 2 RESET (out) "Active-high reset output", 3 ~{MR} (in) "Manual reset", 4 VDD (power) "Supply voltage", 5 GND (power) "Ground", 6 PFI (in) "Power-fail comparator input", 7 ~{PFO} (out) "Power-fail comparator output", 8 NC "No internal connection", 9 EP "Exposed thermal pad"

## TPS3707-30DGNRG4
designator U?
Processor Supervisory Circuit with Power-Fail, 2 Supply Monitored, -40 to 85 degC, 8-pin MSOP-PowerPAD (DGN), Green (RoHS & no Sb/Br); Manufacturer: Texas Instruments; PartNumber: TPS3707-30DGNRG4; # of supplies monitored: 2; Iq(Typ)(uA): 20; Output Driver Type / Reset Output: Active-low, Push-pull; Rating: Catalog; Reset Threshold Accuracy(%): 2.1; SubFamily: Supervisor and Reset IC; Threshold Voltage 1 (typ)(Typ)(V): 2.63; Threshold Voltage 2 (typ)(Typ)(V): Adjustable; Time Delay(ms): 200; VCC(Max)(V): 3; DatasheetVersion: SLVS184C; PackageVersion: revF, May-2011; PackageReference: DGN8-1760X1425TP; PackageDescription: 8-Pin PowerPAD Plastic Small Outline Package 3 x 3 mm Body ,0.65 mm Pitch, Exposed Pad; Supplier 1: Digi-Key; Supplier Part Number 1: TPS3707-30DGNRG4-ND; Supplier 2: Newark; Supplier Part Number 2: 58K6926; Supplier 3: Mouser; Supplier Part Number 3: 595-TPS3707-30DGNRG4; VCC(Min)(V): 2; Mounting Technology: Surface Mount; Code_JEDEC: MO-187-AA-T; ComponentLink1Description: Datasheet; ComponentLink1URL: http://www.ti.com/general/docs/lit/getliterature.tsp?genericPartNumber=TPS3707-30&fileType=pdf
footprint DGN8-1760X1425TP_N (TSOP, 8-Leads, Body 3x3mm, Pitch 0.65mm, Thermal Pad 1.89x1.57mm, IPC Medium Density)
footprint DGN8-1760X1425TP_L (TSOP, 8-Leads, Body 3x3mm, Pitch 0.65mm, Thermal Pad 1.89x1.57mm, IPC High Density)
footprint DGN8-1760X1425TP_M (TSOP, 8-Leads, Body 3x3mm, Pitch 0.65mm, Thermal Pad 1.89x1.57mm, IPC Low Density)
pins: 1 ~{RESET} (out) "Active-low reset output", 2 RESET (out) "Active-high reset output", 3 ~{MR} (in) "Manual reset", 4 VDD (power) "Supply voltage", 5 GND (power) "Ground", 6 PFI (in) "Power-fail comparator input", 7 ~{PFO} (out) "Power-fail comparator output", 8 NC "No internal connection", 9 EP "Exposed thermal pad"

## TPS3707-30DR
designator U?
Processor Supervisory Circuit with Power-Fail, 2 Supply Monitored, -40 to 85 degC, 8-pin SOIC (D), Green (RoHS & no Sb/Br); Manufacturer: Texas Instruments; PartNumber: TPS3707-30DR; # of supplies monitored: 2; Iq(Typ)(uA): 20; Output Driver Type / Reset Output: Active-low, Push-pull; Rating: Catalog; Reset Threshold Accuracy(%): 2.1; SubFamily: Supervisor and Reset IC; Threshold Voltage 1 (typ)(Typ)(V): 2.63; Threshold Voltage 2 (typ)(Typ)(V): Adjustable; Time Delay(ms): 200; VCC(Max)(V): 3; DatasheetVersion: SLVS184C; PackageVersion: revM, Jun-2011; PackageReference: D8; PackageDescription: 8-Pin Plastic Small Outline Integrated Circuit, 4.9 x 3.9 mm, Pitch 1.27 mm Pitch; Supplier 1: Digi-Key; Supplier Part Number 1: TPS3707-30DR-ND; Supplier 2: Newark; Supplier Part Number 2: 77C0375; Supplier 3: Mouser; Supplier Part Number 3: 595-TPS3707-30DR; VCC(Min)(V): 2; Mounting Technology: Surface Mount; Code_JEDEC: MS-012AA; ComponentLink1Description: Datasheet; ComponentLink1URL: http://www.ti.com/general/docs/lit/getliterature.tsp?genericPartNumber=TPS3707-30&fileType=pdf
footprint D8_N (SOIC, 8-Leads, Body 4.9x3.9mm, Pitch 1.27mm, IPC Medium Density)
footprint D8_L (SOIC, 8-Leads, Body 4.9x3.9mm, Pitch 1.27mm, IPC High Density)
footprint D8_M (SOIC, 8-Leads, Body 4.9x3.9mm, Pitch 1.27mm, IPC Low Density)
pins: 1 ~{MR} (in) "Manual reset", 2 VDD (power) "Supply voltage", 3 GND (power) "Ground", 4 PFI (in) "Power-fail comparator input", 5 ~{PFO} (out) "Power-fail comparator output", 6 NC "No internal connection", 7 ~{RESET} (out) "Active-low reset output", 8 RESET (out) "Active-high reset output"

## TPS3707-30DRG4
designator U?
Processor Supervisory Circuit with Power-Fail, 2 Supply Monitored, -40 to 85 degC, 8-pin SOIC (D), Green (RoHS & no Sb/Br); Manufacturer: Texas Instruments; PartNumber: TPS3707-30DRG4; # of supplies monitored: 2; Iq(Typ)(uA): 20; Output Driver Type / Reset Output: Active-low, Push-pull; Rating: Catalog; Reset Threshold Accuracy(%): 2.1; SubFamily: Supervisor and Reset IC; Threshold Voltage 1 (typ)(Typ)(V): 2.63; Threshold Voltage 2 (typ)(Typ)(V): Adjustable; Time Delay(ms): 200; VCC(Max)(V): 3; DatasheetVersion: SLVS184C; PackageVersion: revM, Jun-2011; PackageReference: D8; PackageDescription: 8-Pin Plastic Small Outline Integrated Circuit, 4.9 x 3.9 mm, Pitch 1.27 mm Pitch; Supplier 1: Digi-Key; Supplier Part Number 1: TPS3707-30DRG4-ND; Supplier 2: Newark; Supplier Part Number 2: 33K7606; Supplier 3: Mouser; Supplier Part Number 3: 595-TPS3707-30DRG4; VCC(Min)(V): 2; Mounting Technology: Surface Mount; Code_JEDEC: MS-012AA; ComponentLink1Description: Datasheet; ComponentLink1URL: http://www.ti.com/general/docs/lit/getliterature.tsp?genericPartNumber=TPS3707-30&fileType=pdf
footprint D8_N (SOIC, 8-Leads, Body 4.9x3.9mm, Pitch 1.27mm, IPC Medium Density)
footprint D8_L (SOIC, 8-Leads, Body 4.9x3.9mm, Pitch 1.27mm, IPC High Density)
footprint D8_M (SOIC, 8-Leads, Body 4.9x3.9mm, Pitch 1.27mm, IPC Low Density)
pins: 1 ~{MR} (in) "Manual reset", 2 VDD (power) "Supply voltage", 3 GND (power) "Ground", 4 PFI (in) "Power-fail comparator input", 5 ~{PFO} (out) "Power-fail comparator output", 6 NC "No internal connection", 7 ~{RESET} (out) "Active-low reset output", 8 RESET (out) "Active-high reset output"

## TPS3707-33D
designator U?
Processor Supervisory Circuit with Power-Fail, 2 Supply Monitored, -40 to 85 degC, 8-pin SOIC (D), Green (RoHS & no Sb/Br); Manufacturer: Texas Instruments; PartNumber: TPS3707-33D; # of supplies monitored: 2; Iq(Typ)(uA): 20; Output Driver Type / Reset Output: Active-low, Push-pull; Rating: Catalog; Reset Threshold Accuracy(%): 1.9; SubFamily: Supervisor and Reset IC; Threshold Voltage 1 (typ)(Typ)(V): 2.93; Threshold Voltage 2 (typ)(Typ)(V): Adjustable; Time Delay(ms): 200; VCC(Max)(V): 3.3; DatasheetVersion: SLVS184C; PackageVersion: revM, Jun-2011; PackageReference: D8; PackageDescription: 8-Pin Plastic Small Outline Integrated Circuit, 4.9 x 3.9 mm, Pitch 1.27 mm Pitch; Supplier 1: Digi-Key; Supplier Part Number 1: 296-2627-5-ND; Supplier 2: Farnell; Supplier Part Number 2: 8457140; Supplier 3: Newark; Supplier Part Number 3: 38K8669; Supplier 4: Newark; Supplier Part Number 4: 19C9044; Supplier 5: Mouser; Supplier Part Number 5: 595-TPS3707-33D; VCC(Min)(V): 2; Mounting Technology: Surface Mount; Code_JEDEC: MS-012AA; ComponentLink1Description: Datasheet; ComponentLink1URL: http://www.ti.com/general/docs/lit/getliterature.tsp?genericPartNumber=TPS3707-33&fileType=pdf
footprint D8_N (SOIC, 8-Leads, Body 4.9x3.9mm, Pitch 1.27mm, IPC Medium Density)
footprint D8_L (SOIC, 8-Leads, Body 4.9x3.9mm, Pitch 1.27mm, IPC High Density)
footprint D8_M (SOIC, 8-Leads, Body 4.9x3.9mm, Pitch 1.27mm, IPC Low Density)
pins: 1 ~{MR} (in) "Manual reset", 2 VDD (power) "Supply voltage", 3 GND (power) "Ground", 4 PFI (in) "Power-fail comparator input", 5 ~{PFO} (out) "Power-fail comparator output", 6 NC "No internal connection", 7 ~{RESET} (out) "Active-low reset output", 8 RESET (out) "Active-high reset output"

## TPS3707-33DG4
designator U?
Processor Supervisory Circuit with Power-Fail, 2 Supply Monitored, -40 to 85 degC, 8-pin SOIC (D), Green (RoHS & no Sb/Br); Manufacturer: Texas Instruments; PartNumber: TPS3707-33DG4; # of supplies monitored: 2; Iq(Typ)(uA): 20; Output Driver Type / Reset Output: Active-low, Push-pull; Rating: Catalog; Reset Threshold Accuracy(%): 1.9; SubFamily: Supervisor and Reset IC; Threshold Voltage 1 (typ)(Typ)(V): 2.93; Threshold Voltage 2 (typ)(Typ)(V): Adjustable; Time Delay(ms): 200; VCC(Max)(V): 3.3; DatasheetVersion: SLVS184C; PackageVersion: revM, Jun-2011; PackageReference: D8; PackageDescription: 8-Pin Plastic Small Outline Integrated Circuit, 4.9 x 3.9 mm, Pitch 1.27 mm Pitch; Supplier 1: Digi-Key; Supplier Part Number 1: TPS3707-33DG4-ND; Supplier 2: Newark; Supplier Part Number 2: 54K1650; Supplier 3: Mouser; Supplier Part Number 3: 595-TPS3707-33DG4; VCC(Min)(V): 2; Mounting Technology: Surface Mount; Code_JEDEC: MS-012AA; ComponentLink1Description: Datasheet; ComponentLink1URL: http://www.ti.com/general/docs/lit/getliterature.tsp?genericPartNumber=TPS3707-33&fileType=pdf
footprint D8_N (SOIC, 8-Leads, Body 4.9x3.9mm, Pitch 1.27mm, IPC Medium Density)
footprint D8_L (SOIC, 8-Leads, Body 4.9x3.9mm, Pitch 1.27mm, IPC High Density)
footprint D8_M (SOIC, 8-Leads, Body 4.9x3.9mm, Pitch 1.27mm, IPC Low Density)
pins: 1 ~{MR} (in) "Manual reset", 2 VDD (power) "Supply voltage", 3 GND (power) "Ground", 4 PFI (in) "Power-fail comparator input", 5 ~{PFO} (out) "Power-fail comparator output", 6 NC "No internal connection", 7 ~{RESET} (out) "Active-low reset output", 8 RESET (out) "Active-high reset output"

## TPS3707-33DGN
designator U?
Processor Supervisory Circuit with Power-Fail, 2 Supply Monitored, -40 to 85 degC, 8-pin MSOP-PowerPAD (DGN), Green (RoHS & no Sb/Br); Manufacturer: Texas Instruments; PartNumber: TPS3707-33DGN; # of supplies monitored: 2; Iq(Typ)(uA): 20; Output Driver Type / Reset Output: Active-low, Push-pull; Rating: Catalog; Reset Threshold Accuracy(%): 1.9; SubFamily: Supervisor and Reset IC; Threshold Voltage 1 (typ)(Typ)(V): 2.93; Threshold Voltage 2 (typ)(Typ)(V): Adjustable; Time Delay(ms): 200; VCC(Max)(V): 3.3; DatasheetVersion: SLVS184C; PackageVersion: revF, May-2011; PackageReference: DGN8-1760X1425TP; PackageDescription: 8-Pin PowerPAD Plastic Small Outline Package 3 x 3 mm Body ,0.65 mm Pitch, Exposed Pad; Supplier 1: Digi-Key; Supplier Part Number 1: 296-3323-5-ND; Supplier 2: Newark; Supplier Part Number 2: 77C0376; Supplier 3: Mouser; Supplier Part Number 3: 595-TPS3707-33DGN; VCC(Min)(V): 2; Mounting Technology: Surface Mount; Code_JEDEC: MO-187-AA-T; ComponentLink1Description: Datasheet; ComponentLink1URL: http://www.ti.com/general/docs/lit/getliterature.tsp?genericPartNumber=TPS3707-33&fileType=pdf
footprint DGN8-1760X1425TP_N (TSOP, 8-Leads, Body 3x3mm, Pitch 0.65mm, Thermal Pad 1.89x1.57mm, IPC Medium Density)
footprint DGN8-1760X1425TP_L (TSOP, 8-Leads, Body 3x3mm, Pitch 0.65mm, Thermal Pad 1.89x1.57mm, IPC High Density)
footprint DGN8-1760X1425TP_M (TSOP, 8-Leads, Body 3x3mm, Pitch 0.65mm, Thermal Pad 1.89x1.57mm, IPC Low Density)
pins: 1 ~{RESET} (out) "Active-low reset output", 2 RESET (out) "Active-high reset output", 3 ~{MR} (in) "Manual reset", 4 VDD (power) "Supply voltage", 5 GND (power) "Ground", 6 PFI (in) "Power-fail comparator input", 7 ~{PFO} (out) "Power-fail comparator output", 8 NC "No internal connection", 9 EP "Exposed thermal pad"

## TPS3707-33DGNG4
designator U?
Processor Supervisory Circuit with Power-Fail, 2 Supply Monitored, -40 to 85 degC, 8-pin MSOP-PowerPAD (DGN), Green (RoHS & no Sb/Br); Manufacturer: Texas Instruments; PartNumber: TPS3707-33DGNG4; # of supplies monitored: 2; Iq(Typ)(uA): 20; Output Driver Type / Reset Output: Active-low, Push-pull; Rating: Catalog; Reset Threshold Accuracy(%): 1.9; SubFamily: Supervisor and Reset IC; Threshold Voltage 1 (typ)(Typ)(V): 2.93; Threshold Voltage 2 (typ)(Typ)(V): Adjustable; Time Delay(ms): 200; VCC(Max)(V): 3.3; DatasheetVersion: SLVS184C; PackageVersion: revF, May-2011; PackageReference: DGN8-1760X1425TP; PackageDescription: 8-Pin PowerPAD Plastic Small Outline Package 3 x 3 mm Body ,0.65 mm Pitch, Exposed Pad; Supplier 1: Digi-Key; Supplier Part Number 1: TPS3707-33DGNG4-ND; Supplier 2: Newark; Supplier Part Number 2: 54K1648; Supplier 3: Mouser; Supplier Part Number 3: 595-TPS3707-33DGNG4; VCC(Min)(V): 2; Mounting Technology: Surface Mount; Code_JEDEC: MO-187-AA-T; ComponentLink1Description: Datasheet; ComponentLink1URL: http://www.ti.com/general/docs/lit/getliterature.tsp?genericPartNumber=TPS3707-33&fileType=pdf
footprint DGN8-1760X1425TP_N (TSOP, 8-Leads, Body 3x3mm, Pitch 0.65mm, Thermal Pad 1.89x1.57mm, IPC Medium Density)
footprint DGN8-1760X1425TP_L (TSOP, 8-Leads, Body 3x3mm, Pitch 0.65mm, Thermal Pad 1.89x1.57mm, IPC High Density)
footprint DGN8-1760X1425TP_M (TSOP, 8-Leads, Body 3x3mm, Pitch 0.65mm, Thermal Pad 1.89x1.57mm, IPC Low Density)
pins: 1 ~{RESET} (out) "Active-low reset output", 2 RESET (out) "Active-high reset output", 3 ~{MR} (in) "Manual reset", 4 VDD (power) "Supply voltage", 5 GND (power) "Ground", 6 PFI (in) "Power-fail comparator input", 7 ~{PFO} (out) "Power-fail comparator output", 8 NC "No internal connection", 9 EP "Exposed thermal pad"

## TPS3707-33DGNR
designator U?
Processor Supervisory Circuit with Power-Fail, 2 Supply Monitored, -40 to 85 degC, 8-pin MSOP-PowerPAD (DGN), Green (RoHS & no Sb/Br); Manufacturer: Texas Instruments; PartNumber: TPS3707-33DGNR; # of supplies monitored: 2; Iq(Typ)(uA): 20; Output Driver Type / Reset Output: Active-low, Push-pull; Rating: Catalog; Reset Threshold Accuracy(%): 1.9; SubFamily: Supervisor and Reset IC; Threshold Voltage 1 (typ)(Typ)(V): 2.93; Threshold Voltage 2 (typ)(Typ)(V): Adjustable; Time Delay(ms): 200; VCC(Max)(V): 3.3; DatasheetVersion: SLVS184C; PackageVersion: revF, May-2011; PackageReference: DGN8-1760X1425TP; PackageDescription: 8-Pin PowerPAD Plastic Small Outline Package 3 x 3 mm Body ,0.65 mm Pitch, Exposed Pad; Supplier 1: Digi-Key; Supplier Part Number 1: TPS3707-33DGNR-ND; Supplier 2: Newark; Supplier Part Number 2: 77C0377; Supplier 3: Mouser; Supplier Part Number 3: 595-TPS3707-33DGNR; VCC(Min)(V): 2; Mounting Technology: Surface Mount; Code_JEDEC: MO-187-AA-T; ComponentLink1Description: Datasheet; ComponentLink1URL: http://www.ti.com/general/docs/lit/getliterature.tsp?genericPartNumber=TPS3707-33&fileType=pdf
footprint DGN8-1760X1425TP_N (TSOP, 8-Leads, Body 3x3mm, Pitch 0.65mm, Thermal Pad 1.89x1.57mm, IPC Medium Density)
footprint DGN8-1760X1425TP_L (TSOP, 8-Leads, Body 3x3mm, Pitch 0.65mm, Thermal Pad 1.89x1.57mm, IPC High Density)
footprint DGN8-1760X1425TP_M (TSOP, 8-Leads, Body 3x3mm, Pitch 0.65mm, Thermal Pad 1.89x1.57mm, IPC Low Density)
pins: 1 ~{RESET} (out) "Active-low reset output", 2 RESET (out) "Active-high reset output", 3 ~{MR} (in) "Manual reset", 4 VDD (power) "Supply voltage", 5 GND (power) "Ground", 6 PFI (in) "Power-fail comparator input", 7 ~{PFO} (out) "Power-fail comparator output", 8 NC "No internal connection", 9 EP "Exposed thermal pad"

## TPS3707-33DGNRG4
designator U?
Processor Supervisory Circuit with Power-Fail, 2 Supply Monitored, -40 to 85 degC, 8-pin MSOP-PowerPAD (DGN), Green (RoHS & no Sb/Br); Manufacturer: Texas Instruments; PartNumber: TPS3707-33DGNRG4; # of supplies monitored: 2; Iq(Typ)(uA): 20; Output Driver Type / Reset Output: Active-low, Push-pull; Rating: Catalog; Reset Threshold Accuracy(%): 1.9; SubFamily: Supervisor and Reset IC; Threshold Voltage 1 (typ)(Typ)(V): 2.93; Threshold Voltage 2 (typ)(Typ)(V): Adjustable; Time Delay(ms): 200; VCC(Max)(V): 3.3; DatasheetVersion: SLVS184C; PackageVersion: revF, May-2011; PackageReference: DGN8-1760X1425TP; PackageDescription: 8-Pin PowerPAD Plastic Small Outline Package 3 x 3 mm Body ,0.65 mm Pitch, Exposed Pad; Supplier 1: Digi-Key; Supplier Part Number 1: TPS3707-33DGNRG4-ND; Supplier 2: Newark; Supplier Part Number 2: 54K1649; Supplier 3: Mouser; Supplier Part Number 3: 595-TPS3707-33DGNRG4; VCC(Min)(V): 2; Mounting Technology: Surface Mount; Code_JEDEC: MO-187-AA-T; ComponentLink1Description: Datasheet; ComponentLink1URL: http://www.ti.com/general/docs/lit/getliterature.tsp?genericPartNumber=TPS3707-33&fileType=pdf
footprint DGN8-1760X1425TP_N (TSOP, 8-Leads, Body 3x3mm, Pitch 0.65mm, Thermal Pad 1.89x1.57mm, IPC Medium Density)
footprint DGN8-1760X1425TP_L (TSOP, 8-Leads, Body 3x3mm, Pitch 0.65mm, Thermal Pad 1.89x1.57mm, IPC High Density)
footprint DGN8-1760X1425TP_M (TSOP, 8-Leads, Body 3x3mm, Pitch 0.65mm, Thermal Pad 1.89x1.57mm, IPC Low Density)
pins: 1 ~{RESET} (out) "Active-low reset output", 2 RESET (out) "Active-high reset output", 3 ~{MR} (in) "Manual reset", 4 VDD (power) "Supply voltage", 5 GND (power) "Ground", 6 PFI (in) "Power-fail comparator input", 7 ~{PFO} (out) "Power-fail comparator output", 8 NC "No internal connection", 9 EP "Exposed thermal pad"

## TPS3707-33DR
designator U?
Processor Supervisory Circuit with Power-Fail, 2 Supply Monitored, -40 to 85 degC, 8-pin SOIC (D), Green (RoHS & no Sb/Br); Manufacturer: Texas Instruments; PartNumber: TPS3707-33DR; # of supplies monitored: 2; Iq(Typ)(uA): 20; Output Driver Type / Reset Output: Active-low, Push-pull; Rating: Catalog; Reset Threshold Accuracy(%): 1.9; SubFamily: Supervisor and Reset IC; Threshold Voltage 1 (typ)(Typ)(V): 2.93; Threshold Voltage 2 (typ)(Typ)(V): Adjustable; Time Delay(ms): 200; VCC(Max)(V): 3.3; DatasheetVersion: SLVS184C; PackageVersion: revM, Jun-2011; PackageReference: D8; PackageDescription: 8-Pin Plastic Small Outline Integrated Circuit, 4.9 x 3.9 mm, Pitch 1.27 mm Pitch; Supplier 1: Digi-Key; Supplier Part Number 1: TPS3707-33DR-ND; Supplier 2: Newark; Supplier Part Number 2: 77C0378; Supplier 3: Mouser; Supplier Part Number 3: 595-TPS3707-33DR; VCC(Min)(V): 2; Mounting Technology: Surface Mount; Code_JEDEC: MS-012AA; ComponentLink1Description: Datasheet; ComponentLink1URL: http://www.ti.com/general/docs/lit/getliterature.tsp?genericPartNumber=TPS3707-33&fileType=pdf
footprint D8_N (SOIC, 8-Leads, Body 4.9x3.9mm, Pitch 1.27mm, IPC Medium Density)
footprint D8_L (SOIC, 8-Leads, Body 4.9x3.9mm, Pitch 1.27mm, IPC High Density)
footprint D8_M (SOIC, 8-Leads, Body 4.9x3.9mm, Pitch 1.27mm, IPC Low Density)
pins: 1 ~{MR} (in) "Manual reset", 2 VDD (power) "Supply voltage", 3 GND (power) "Ground", 4 PFI (in) "Power-fail comparator input", 5 ~{PFO} (out) "Power-fail comparator output", 6 NC "No internal connection", 7 ~{RESET} (out) "Active-low reset output", 8 RESET (out) "Active-high reset output"

## TPS3707-33DRG4
designator U?
Processor Supervisory Circuit with Power-Fail, 2 Supply Monitored, -40 to 85 degC, 8-pin SOIC (D), Green (RoHS & no Sb/Br); Manufacturer: Texas Instruments; PartNumber: TPS3707-33DRG4; # of supplies monitored: 2; Iq(Typ)(uA): 20; Output Driver Type / Reset Output: Active-low, Push-pull; Rating: Catalog; Reset Threshold Accuracy(%): 1.9; SubFamily: Supervisor and Reset IC; Threshold Voltage 1 (typ)(Typ)(V): 2.93; Threshold Voltage 2 (typ)(Typ)(V): Adjustable; Time Delay(ms): 200; VCC(Max)(V): 3.3; DatasheetVersion: SLVS184C; PackageVersion: revM, Jun-2011; PackageReference: D8; PackageDescription: 8-Pin Plastic Small Outline Integrated Circuit, 4.9 x 3.9 mm, Pitch 1.27 mm Pitch; Supplier 1: Digi-Key; Supplier Part Number 1: TPS3707-33DRG4-ND; Supplier 2: Newark; Supplier Part Number 2: 54K1651; Supplier 3: Mouser; Supplier Part Number 3: 595-TPS3707-33DRG4; VCC(Min)(V): 2; Mounting Technology: Surface Mount; Code_JEDEC: MS-012AA; ComponentLink1Description: Datasheet; ComponentLink1URL: http://www.ti.com/general/docs/lit/getliterature.tsp?genericPartNumber=TPS3707-33&fileType=pdf
footprint D8_N (SOIC, 8-Leads, Body 4.9x3.9mm, Pitch 1.27mm, IPC Medium Density)
footprint D8_L (SOIC, 8-Leads, Body 4.9x3.9mm, Pitch 1.27mm, IPC High Density)
footprint D8_M (SOIC, 8-Leads, Body 4.9x3.9mm, Pitch 1.27mm, IPC Low Density)
pins: 1 ~{MR} (in) "Manual reset", 2 VDD (power) "Supply voltage", 3 GND (power) "Ground", 4 PFI (in) "Power-fail comparator input", 5 ~{PFO} (out) "Power-fail comparator output", 6 NC "No internal connection", 7 ~{RESET} (out) "Active-low reset output", 8 RESET (out) "Active-high reset output"

## TPS3707-50D
designator U?
Processor Supervisory Circuit with Power-Fail, 2 Supply Monitored, -40 to 85 degC, 8-pin SOIC (D), Green (RoHS & no Sb/Br); Manufacturer: Texas Instruments; PartNumber: TPS3707-50D; # of supplies monitored: 2; Iq(Typ)(uA): 20; Output Driver Type / Reset Output: Active-low, Push-pull; Rating: Catalog; SubFamily: Supervisor and Reset IC; Threshold Voltage 1 (typ)(Typ)(V): 4.55; Threshold Voltage 2 (typ)(Typ)(V): Adjustable; Time Delay(ms): 200; VCC(Max)(V): 5; DatasheetVersion: SLVS184C; PackageVersion: revM, Jun-2011; PackageReference: D8; PackageDescription: 8-Pin Plastic Small Outline Integrated Circuit, 4.9 x 3.9 mm, Pitch 1.27 mm Pitch; Supplier 1: Digi-Key; Supplier Part Number 1: 296-2628-5-ND; Supplier 2: Newark; Supplier Part Number 2: 19C9045; Supplier 3: Mouser; Supplier Part Number 3: 595-TPS3707-50D; Reset Threshold Accuracy(%): 2; VCC(Min)(V): 2; Mounting Technology: Surface Mount; Code_JEDEC: MS-012AA; ComponentLink1Description: Datasheet; ComponentLink1URL: http://www.ti.com/general/docs/lit/getliterature.tsp?genericPartNumber=TPS3707-50&fileType=pdf
footprint D8_N (SOIC, 8-Leads, Body 4.9x3.9mm, Pitch 1.27mm, IPC Medium Density)
footprint D8_L (SOIC, 8-Leads, Body 4.9x3.9mm, Pitch 1.27mm, IPC High Density)
footprint D8_M (SOIC, 8-Leads, Body 4.9x3.9mm, Pitch 1.27mm, IPC Low Density)
pins: 1 ~{MR} (in) "Manual reset", 2 VDD (power) "Supply voltage", 3 GND (power) "Ground", 4 PFI (in) "Power-fail comparator input", 5 ~{PFO} (out) "Power-fail comparator output", 6 NC "No internal connection", 7 ~{RESET} (out) "Active-low reset output", 8 RESET (out) "Active-high reset output"